# Altium schematic symbol library WE-HCF.SchLib: 54 symbols
Pins are listed as number, name and electrical type; pins without a type are passive.

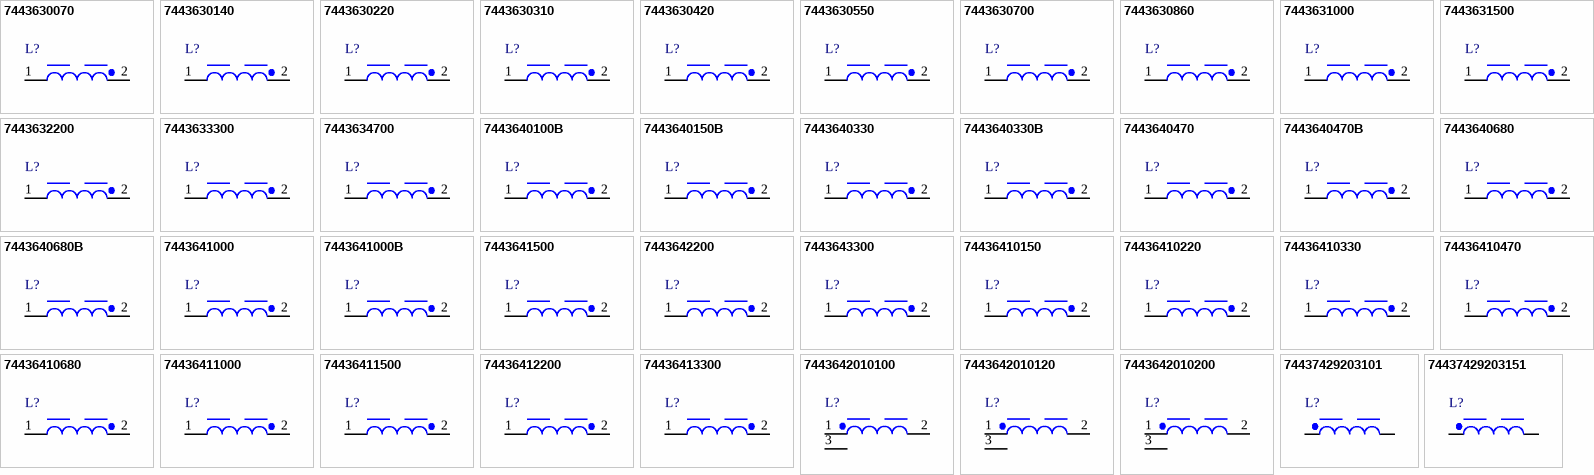
[diagram p0: symbols 7443630070 to 74437429203151]

## 7443630070
designator L?, comment 0.7uH  (value not drawn)
WE-HCF SMT High Current Inductor, SMT, size 2013, 0.7uH, 54.7A, 0.91mohm; Manufacturer Part Number: 7443630070; Manufacturer: Wurth Elektronik; Case/Size Code: 2013; Saturation Current @ 10%: 63A; Saturation Current @ 30%: 75A; Self Resonant Frequency: 65MHz; Wire Type: Flat; Category: Power Inductors; Match Code: WE-HCF; ComponentLink1Description: Website Link; ComponentLink1URL: https://www.we-online.com; ComponentLink2Description: Datasheet Link; ComponentLink2URL: https://www.we-online.com/components/products/datasheet/7443630070; Mount: Surface Mount; Operating Temperature Min: -40degC; Operating Temperature Max: 125degC; Packaging: Tray; Length: 21.8mm; Width: 21.5mm; Height: 14.5mm; DC Resistance Max: 0.91mohm; Inductance: 0.7uH; Performance Rated Current: 54.7A
footprint WE-HCF_2013
simulation model 2013_7443630070_0.7u
pins: 1, 2

## 7443630140
designator L?, comment 1.4uH  (value not drawn)
WE-HCF SMT High Current Inductor, SMT, size 2013, 1.4uH, 47.1A, 1.19mohm; Manufacturer Part Number: 7443630140; Manufacturer: Wurth Elektronik; Case/Size Code: 2013; Saturation Current @ 10%: 55A; Saturation Current @ 30%: 60A; Self Resonant Frequency: 52MHz; Wire Type: Flat; Category: Power Inductors; Match Code: WE-HCF; ComponentLink1Description: Website Link; ComponentLink1URL: https://www.we-online.com; ComponentLink2Description: Datasheet Link; ComponentLink2URL: https://www.we-online.com/components/products/datasheet/7443630140; Mount: Surface Mount; Operating Temperature Min: -40degC; Operating Temperature Max: 125degC; Packaging: Tray; Length: 21.8mm; Width: 21.5mm; Height: 14.5mm; DC Resistance Max: 1.19mohm; Inductance: 1.4uH; Performance Rated Current: 47.1A
footprint WE-HCF_2013
simulation model 2013_7443630140_1.4u
pins: 1, 2

## 7443630220
designator L?, comment 2.2uH  (value not drawn)
WE-HCF SMT High Current Inductor, SMT, size 2013, 2.2uH, 39.5A, 1.65mohm; Manufacturer Part Number: 7443630220; Manufacturer: Wurth Elektronik; Case/Size Code: 2013; Saturation Current @ 10%: 47A; Saturation Current @ 30%: 52A; Self Resonant Frequency: 32MHz; Wire Type: Flat; Category: Power Inductors; Match Code: WE-HCF; ComponentLink1Description: Website Link; ComponentLink1URL: https://www.we-online.com; ComponentLink2Description: Datasheet Link; ComponentLink2URL: https://www.we-online.com/components/products/datasheet/7443630220; Mount: Surface Mount; Operating Temperature Min: -40degC; Operating Temperature Max: 125degC; Packaging: Tray; Length: 21.8mm; Width: 21.5mm; Height: 14.5mm; DC Resistance Max: 1.65mohm; Inductance: 2.2uH; Performance Rated Current: 39.5A
footprint WE-HCF_2013
simulation model 2013_7443630220_2.2u
pins: 1, 2

## 7443630310
designator L?, comment 3.1uH  (value not drawn)
WE-HCF SMT High Current Inductor, SMT, size 2013, 3.1uH, 33.15A, 2.3mohm; Manufacturer Part Number: 7443630310; Manufacturer: Wurth Elektronik; Case/Size Code: 2013; Saturation Current @ 10%: 41A; Saturation Current @ 30%: 45A; Self Resonant Frequency: 29MHz; Wire Type: Flat; Category: Power Inductors; Match Code: WE-HCF; ComponentLink1Description: Website Link; ComponentLink1URL: https://www.we-online.com; ComponentLink2Description: Datasheet Link; ComponentLink2URL: https://www.we-online.com/components/products/datasheet/7443630310; Mount: Surface Mount; Operating Temperature Min: -40degC; Operating Temperature Max: 125degC; Packaging: Tray; Length: 21.8mm; Width: 21.5mm; Height: 14.5mm; DC Resistance Max: 2.3mohm; Inductance: 3.1uH; Performance Rated Current: 33.15A
footprint WE-HCF_2013
simulation model 2013_7443630310_3.1u
pins: 1, 2

## 7443630420
designator L?, comment 4.2uH  (value not drawn)
WE-HCF SMT High Current Inductor, SMT, size 2013, 4.2uH, 27A, 3.34mohm; Manufacturer Part Number: 7443630420; Manufacturer: Wurth Elektronik; Case/Size Code: 2013; Saturation Current @ 10%: 34A; Saturation Current @ 30%: 38A; Self Resonant Frequency: 24MHz; Wire Type: Flat; Category: Power Inductors; Match Code: WE-HCF; ComponentLink1Description: Website Link; ComponentLink1URL: https://www.we-online.com; ComponentLink2Description: Datasheet Link; ComponentLink2URL: https://www.we-online.com/components/products/datasheet/7443630420; Mount: Surface Mount; Operating Temperature Min: -40degC; Operating Temperature Max: 125degC; Packaging: Tray; Length: 21.8mm; Width: 21.5mm; Height: 14.5mm; DC Resistance Max: 3.34mohm; Inductance: 4.2uH; Performance Rated Current: 27A
footprint WE-HCF_2013
simulation model 2013_7443630420_4.2u
pins: 1, 2

## 7443630550
designator L?, comment 5.5uH  (value not drawn)
WE-HCF SMT High Current Inductor, SMT, size 2013, 5.5uH, 23.35A, 4.4mohm; Manufacturer Part Number: 7443630550; Manufacturer: Wurth Elektronik; Case/Size Code: 2013; Saturation Current @ 10%: 30A; Saturation Current @ 30%: 33A; Self Resonant Frequency: 21MHz; Wire Type: Flat; Category: Power Inductors; Match Code: WE-HCF; ComponentLink1Description: Website Link; ComponentLink1URL: https://www.we-online.com; ComponentLink2Description: Datasheet Link; ComponentLink2URL: https://www.we-online.com/components/products/datasheet/7443630550; Mount: Surface Mount; Operating Temperature Min: -40degC; Operating Temperature Max: 125degC; Packaging: Tray; Length: 21.8mm; Width: 21.5mm; Height: 14.5mm; DC Resistance Max: 4.4mohm; Inductance: 5.5uH; Performance Rated Current: 23.35A
footprint WE-HCF_2013
simulation model 2013_7443630550_5.5u
pins: 1, 2

## 7443630700
designator L?, comment 7uH  (value not drawn)
WE-HCF SMT High Current Inductor, SMT, size 2013, 7uH, 19.5A, 6.17mohm; Manufacturer Part Number: 7443630700; Manufacturer: Wurth Elektronik; Case/Size Code: 2013; Saturation Current @ 10%: 27A; Saturation Current @ 30%: 30A; Self Resonant Frequency: 18MHz; Wire Type: Flat; Category: Power Inductors; Match Code: WE-HCF; ComponentLink1Description: Website Link; ComponentLink1URL: https://www.we-online.com; ComponentLink2Description: Datasheet Link; ComponentLink2URL: https://www.we-online.com/components/products/datasheet/7443630700; Mount: Surface Mount; Operating Temperature Min: -40degC; Operating Temperature Max: 125degC; Packaging: Tray; Length: 21.8mm; Width: 21.5mm; Height: 14.5mm; DC Resistance Max: 6.17mohm; Inductance: 7uH; Performance Rated Current: 19.5A
footprint WE-HCF_2013
simulation model 2013_7443630700_7u
pins: 1, 2

## 7443630860
designator L?, comment 8.6uH  (value not drawn)
WE-HCF SMT High Current Inductor, SMT, size 2013, 8.6uH, 17.1A, 7.91mohm; Manufacturer Part Number: 7443630860; Manufacturer: Wurth Elektronik; Case/Size Code: 2013; Saturation Current @ 10%: 23.5A; Saturation Current @ 30%: 25A; Self Resonant Frequency: 14MHz; Wire Type: Flat; Category: Power Inductors; Match Code: WE-HCF; ComponentLink1Description: Website Link; ComponentLink1URL: https://www.we-online.com; ComponentLink2Description: Datasheet Link; ComponentLink2URL: https://www.we-online.com/components/products/datasheet/7443630860; Mount: Surface Mount; Operating Temperature Min: -40degC; Operating Temperature Max: 125degC; Packaging: Tray; Length: 21.8mm; Width: 21.5mm; Height: 14.5mm; DC Resistance Max: 7.91mohm; Inductance: 8.6uH; Performance Rated Current: 17.1A
footprint WE-HCF_2013
simulation model 2013_7443630860_8.6u
pins: 1, 2

## 7443631000
designator L?, comment 10uH  (value not drawn)
WE-HCF SMT High Current Inductor, SMT, size 2013, 10uH, 16.15A, 8.76mohm; Manufacturer Part Number: 7443631000; Manufacturer: Wurth Elektronik; Case/Size Code: 2013; Saturation Current @ 10%: 22A; Saturation Current @ 30%: 23A; Self Resonant Frequency: 13MHz; Wire Type: Flat; Category: Power Inductors; Match Code: WE-HCF; ComponentLink1Description: Website Link; ComponentLink1URL: https://www.we-online.com; ComponentLink2Description: Datasheet Link; ComponentLink2URL: https://www.we-online.com/components/products/datasheet/7443631000; Mount: Surface Mount; Operating Temperature Min: -40degC; Operating Temperature Max: 125degC; Packaging: Tray; Length: 21.8mm; Width: 21.5mm; Height: 14.5mm; DC Resistance Max: 8.76mohm; Inductance: 10uH; Performance Rated Current: 16.15A
footprint WE-HCF_2013
simulation model 2013_7443631000_10u
pins: 1, 2

## 7443631500
designator L?, comment 15uH  (value not drawn)
WE-HCF SMT High Current Inductor, SMT, size 2013, 15uH, 15.4A, 9.57mohm; Manufacturer Part Number: 7443631500; Manufacturer: Wurth Elektronik; Case/Size Code: 2013; Saturation Current @ 10%: 19A; Saturation Current @ 30%: 21A; Self Resonant Frequency: 12.8MHz; Wire Type: Flat; Category: Power Inductors; Match Code: WE-HCF; ComponentLink1Description: Website Link; ComponentLink1URL: https://www.we-online.com; ComponentLink2Description: Datasheet Link; ComponentLink2URL: https://www.we-online.com/components/products/datasheet/7443631500; Mount: Surface Mount; Operating Temperature Min: -40degC; Operating Temperature Max: 125degC; Packaging: Tray; Length: 21.8mm; Width: 21.5mm; Height: 14.5mm; DC Resistance Max: 9.57mohm; Inductance: 15uH; Performance Rated Current: 15.4A
footprint WE-HCF_2013
simulation model 2013_7443631500_15u
pins: 1, 2

## 7443632200
designator L?, comment 22uH  (value not drawn)
WE-HCF SMT High Current Inductor, SMT, size 2013, 22uH, 13.8A, 11.72mohm; Manufacturer Part Number: 7443632200; Manufacturer: Wurth Elektronik; Case/Size Code: 2013; Saturation Current @ 10%: 13A; Saturation Current @ 30%: 15A; Self Resonant Frequency: 12.5MHz; Wire Type: Flat; Category: Power Inductors; Match Code: WE-HCF; ComponentLink1Description: Website Link; ComponentLink1URL: https://www.we-online.com; ComponentLink2Description: Datasheet Link; ComponentLink2URL: https://www.we-online.com/components/products/datasheet/7443632200; Mount: Surface Mount; Operating Temperature Min: -40degC; Operating Temperature Max: 125degC; Packaging: Tray; Length: 21.8mm; Width: 21.5mm; Height: 14.5mm; DC Resistance Max: 11.72mohm; Inductance: 22uH; Performance Rated Current: 13.8A
footprint WE-HCF_2013
simulation model 2013_7443632200_22u
pins: 1, 2

## 7443633300
designator L?, comment 33uH  (value not drawn)
WE-HCF SMT High Current Inductor, SMT, size 2013, 33uH, 13.3A, 12.54mohm; Manufacturer Part Number: 7443633300; Manufacturer: Wurth Elektronik; Case/Size Code: 2013; Saturation Current @ 10%: 9.5A; Saturation Current @ 30%: 11A; Self Resonant Frequency: 12MHz; Wire Type: Flat; Category: Power Inductors; Match Code: WE-HCF; ComponentLink1Description: Website Link; ComponentLink1URL: https://www.we-online.com; ComponentLink2Description: Datasheet Link; ComponentLink2URL: https://www.we-online.com/components/products/datasheet/7443633300; Mount: Surface Mount; Operating Temperature Min: -40degC; Operating Temperature Max: 125degC; Packaging: Tray; Length: 21.8mm; Width: 21.5mm; Height: 14.5mm; DC Resistance Max: 12.54mohm; Inductance: 33uH; Performance Rated Current: 13.3A
footprint WE-HCF_2013
simulation model 2013_7443633300_33u
pins: 1, 2

## 7443634700
designator L?, comment 47uH  (value not drawn)
WE-HCF SMT High Current Inductor, SMT, size 2013, 47uH, 12.8A, 13.42mohm; Manufacturer Part Number: 7443634700; Manufacturer: Wurth Elektronik; Case/Size Code: 2013; Saturation Current @ 10%: 7.5A; Saturation Current @ 30%: 8.5A; Self Resonant Frequency: 10MHz; Wire Type: Flat; Category: Power Inductors; Match Code: WE-HCF; ComponentLink1Description: Website Link; ComponentLink1URL: https://www.we-online.com; ComponentLink2Description: Datasheet Link; ComponentLink2URL: https://www.we-online.com/components/products/datasheet/7443634700; Mount: Surface Mount; Operating Temperature Min: -40degC; Operating Temperature Max: 125degC; Packaging: Tray; Length: 21.8mm; Width: 21.5mm; Height: 14.5mm; DC Resistance Max: 13.42mohm; Inductance: 47uH; Performance Rated Current: 12.8A
footprint WE-HCF_2013
simulation model 2013_7443634700_47u
pins: 1, 2

## 7443640100B
designator L?, comment 1uH  (value not drawn)
WE-HCF SMT High Current Inductor, SMT, size 2818, 1uH, 86.2A, 0.48mohm; Manufacturer Part Number: 7443640100B; Manufacturer: Wurth Elektronik; Case/Size Code: 2818; Saturation Current @ 10%: 122A; Saturation Current @ 30%: 125A; Self Resonant Frequency: 53.6MHz; Wire Type: Flat; Category: Power Inductors; Match Code: WE-HCF; ComponentLink1Description: Website Link; ComponentLink1URL: https://www.we-online.com; ComponentLink2Description: Datasheet Link; ComponentLink2URL: https://www.we-online.com/components/products/datasheet/7443640100B; Mount: Surface Mount; Operating Temperature Min: -40degC; Operating Temperature Max: 125degC; Packaging: Tray; Length: 28mm; Width: 27mm; Height: 18.5mm; DC Resistance Max: 0.48mohm; Inductance: 1uH; Performance Rated Current: 86.2A
footprint WE-HCF_2818
simulation model 2818B_7443640100B_1u
pins: 1, 2

## 7443640150B
designator L?, comment 1.5uH  (value not drawn)
WE-HCF SMT High Current Inductor, SMT, size 2818, 1.5uH, 86.2A, 0.48mohm; Manufacturer Part Number: 7443640150B; Manufacturer: Wurth Elektronik; Case/Size Code: 2818; Saturation Current @ 10%: 85A; Saturation Current @ 30%: 91.8A; Self Resonant Frequency: 37.6MHz; Wire Type: Flat; Category: Power Inductors; Match Code: WE-HCF; ComponentLink1Description: Website Link; ComponentLink1URL: https://www.we-online.com; ComponentLink2Description: Datasheet Link; ComponentLink2URL: https://www.we-online.com/components/products/datasheet/7443640150B; Mount: Surface Mount; Operating Temperature Min: -40degC; Operating Temperature Max: 125degC; Packaging: Tray; Length: 28mm; Width: 27mm; Height: 18.5mm; DC Resistance Max: 0.48mohm; Inductance: 1.5uH; Performance Rated Current: 86.2A
footprint WE-HCF_2818
simulation model 2818B_7443640150B_1.5u
pins: 1, 2

## 7443640330
designator L?, comment 3.3uH  (value not drawn)
WE-HCF SMT High Current Inductor, SMT, size 2818, 3.3uH, 34.95A, 2.64mohm; Manufacturer Part Number: 7443640330; Manufacturer: Wurth Elektronik; Case/Size Code: 2818; Saturation Current @ 10%: 89.8A; Saturation Current @ 30%: 100A; Self Resonant Frequency: 25MHz; Wire Type: Flat; Category: Power Inductors; Match Code: WE-HCF; ComponentLink1Description: Website Link; ComponentLink1URL: https://www.we-online.com; ComponentLink2Description: Datasheet Link; ComponentLink2URL: https://www.we-online.com/components/products/datasheet/7443640330; Mount: Surface Mount; Operating Temperature Min: -40degC; Operating Temperature Max: 125degC; Packaging: Tray; Length: 28mm; Width: 27mm; Height: 18.5mm; DC Resistance Max: 2.64mohm; Inductance: 3.3uH; Performance Rated Current: 34.95A
footprint WE-HCF_2818
simulation model 2818_7443640330_3.3u
pins: 1, 2

## 7443640330B
designator L?, comment 3.3uH  (value not drawn)
WE-HCF SMT High Current Inductor, SMT, size 2818, 3.3uH, 59.2A, 0.97mohm; Manufacturer Part Number: 7443640330B; Manufacturer: Wurth Elektronik; Case/Size Code: 2818; Saturation Current @ 10%: 61.35A; Saturation Current @ 30%: 70A; Self Resonant Frequency: 28.2MHz; Wire Type: Flat; Category: Power Inductors; Match Code: WE-HCF; ComponentLink1Description: Website Link; ComponentLink1URL: https://www.we-online.com; ComponentLink2Description: Datasheet Link; ComponentLink2URL: https://www.we-online.com/components/products/datasheet/7443640330B; Mount: Surface Mount; Operating Temperature Min: -40degC; Operating Temperature Max: 125degC; Packaging: Tray; Length: 28mm; Width: 27mm; Height: 18.5mm; DC Resistance Max: 0.97mohm; Inductance: 3.3uH; Performance Rated Current: 59.2A
footprint WE-HCF_2818
simulation model 2818B_7443640330B_3.3u
pins: 1, 2

## 7443640470
designator L?, comment 4.7uH  (value not drawn)
WE-HCF SMT High Current Inductor, SMT, size 2818, 4.7uH, 34.95A, 2.64mohm; Manufacturer Part Number: 7443640470; Manufacturer: Wurth Elektronik; Case/Size Code: 2818; Saturation Current @ 10%: 70A; Saturation Current @ 30%: 78A; Self Resonant Frequency: 20MHz; Wire Type: Flat; Category: Power Inductors; Match Code: WE-HCF; ComponentLink1Description: Website Link; ComponentLink1URL: https://www.we-online.com; ComponentLink2Description: Datasheet Link; ComponentLink2URL: https://www.we-online.com/components/products/datasheet/7443640470; Mount: Surface Mount; Operating Temperature Min: -40degC; Operating Temperature Max: 125degC; Packaging: Tray; Length: 28mm; Width: 27mm; Height: 18.5mm; DC Resistance Max: 2.64mohm; Inductance: 4.7uH; Performance Rated Current: 34.95A
footprint WE-HCF_2818
simulation model 2818_7443640470_4.7u
pins: 1, 2

## 7443640470B
designator L?, comment 4.7uH  (value not drawn)
WE-HCF SMT High Current Inductor, SMT, size 2818, 4.7uH, 59.2A, 0.97mohm; Manufacturer Part Number: 7443640470B; Manufacturer: Wurth Elektronik; Case/Size Code: 2818; Saturation Current @ 10%: 43.85A; Saturation Current @ 30%: 49.5A; Self Resonant Frequency: 22.6MHz; Wire Type: Flat; Category: Power Inductors; Match Code: WE-HCF; ComponentLink1Description: Website Link; ComponentLink1URL: https://www.we-online.com; ComponentLink2Description: Datasheet Link; ComponentLink2URL: https://www.we-online.com/components/products/datasheet/7443640470B; Mount: Surface Mount; Operating Temperature Min: -40degC; Operating Temperature Max: 125degC; Packaging: Tray; Length: 28mm; Width: 27mm; Height: 18.5mm; DC Resistance Max: 0.97mohm; Inductance: 4.7uH; Performance Rated Current: 59.2A
footprint WE-HCF_2818
simulation model 2818B_7443640470B_4.7u
pins: 1, 2

## 7443640680
designator L?, comment 6.8uH  (value not drawn)
WE-HCF SMT High Current Inductor, SMT, size 2818, 6.8uH, 34.95A, 2.64mohm; Manufacturer Part Number: 7443640680; Manufacturer: Wurth Elektronik; Case/Size Code: 2818; Saturation Current @ 10%: 49.8A; Saturation Current @ 30%: 55A; Self Resonant Frequency: 17MHz; Wire Type: Flat; Category: Power Inductors; Match Code: WE-HCF; ComponentLink1Description: Website Link; ComponentLink1URL: https://www.we-online.com; ComponentLink2Description: Datasheet Link; ComponentLink2URL: https://www.we-online.com/components/products/datasheet/7443640680; Mount: Surface Mount; Operating Temperature Min: -40degC; Operating Temperature Max: 125degC; Packaging: Tray; Length: 28mm; Width: 27mm; Height: 18.5mm; DC Resistance Max: 2.64mohm; Inductance: 6.8uH; Performance Rated Current: 34.95A
footprint WE-HCF_2818
simulation model 2818_7443640680_6.8u
pins: 1, 2

## 7443640680B
designator L?, comment 6.8uH  (value not drawn)
WE-HCF SMT High Current Inductor, SMT, size 2818, 6.8uH, 59.2A, 0.97mohm; Manufacturer Part Number: 7443640680B; Manufacturer: Wurth Elektronik; Case/Size Code: 2818; Saturation Current @ 10%: 31.9A; Saturation Current @ 30%: 36.3A; Self Resonant Frequency: 18.8MHz; Wire Type: Flat; Category: Power Inductors; Match Code: WE-HCF; ComponentLink1Description: Website Link; ComponentLink1URL: https://www.we-online.com; ComponentLink2Description: Datasheet Link; ComponentLink2URL: https://www.we-online.com/components/products/datasheet/7443640680B; Mount: Surface Mount; Operating Temperature Min: -40degC; Operating Temperature Max: 125degC; Packaging: Tray; Length: 28mm; Width: 27mm; Height: 18.5mm; DC Resistance Max: 0.97mohm; Inductance: 6.8uH; Performance Rated Current: 59.2A
footprint WE-HCF_2818
simulation model 2818B_7443640680B_6.8u
pins: 1, 2

## 7443641000
designator L?, comment 10uH  (value not drawn)
WE-HCF SMT High Current Inductor, SMT, size 2818, 10uH, 34.95A, 2.64mohm; Manufacturer Part Number: 7443641000; Manufacturer: Wurth Elektronik; Case/Size Code: 2818; Saturation Current @ 10%: 32.6A; Saturation Current @ 30%: 37A; Self Resonant Frequency: 13MHz; Wire Type: Flat; Category: Power Inductors; Match Code: WE-HCF; ComponentLink1Description: Website Link; ComponentLink1URL: https://www.we-online.com; ComponentLink2Description: Datasheet Link; ComponentLink2URL: https://www.we-online.com/components/products/datasheet/7443641000; Mount: Surface Mount; Operating Temperature Min: -40degC; Operating Temperature Max: 125degC; Packaging: Tray; Length: 28mm; Width: 27mm; Height: 18.5mm; DC Resistance Max: 2.64mohm; Inductance: 10uH; Performance Rated Current: 34.95A
footprint WE-HCF_2818
simulation model 2818_7443641000_10u
pins: 1, 2

## 7443641000B
designator L?, comment 10uH  (value not drawn)
WE-HCF SMT High Current Inductor, SMT, size 2818, 10uH, 59.2A, 0.97mohm; Manufacturer Part Number: 7443641000B; Manufacturer: Wurth Elektronik; Case/Size Code: 2818; Saturation Current @ 10%: 22.9A; Saturation Current @ 30%: 25.1A; Self Resonant Frequency: 15MHz; Wire Type: Flat; Category: Power Inductors; Match Code: WE-HCF; ComponentLink1Description: Website Link; ComponentLink1URL: https://www.we-online.com; ComponentLink2Description: Datasheet Link; ComponentLink2URL: https://www.we-online.com/components/products/datasheet/7443641000B; Mount: Surface Mount; Operating Temperature Min: -40degC; Operating Temperature Max: 125degC; Packaging: Tray; Length: 28mm; Width: 27mm; Height: 18.5mm; DC Resistance Max: 0.97mohm; Inductance: 10uH; Performance Rated Current: 59.2A
footprint WE-HCF_2818
simulation model 2818B_7443641000B_10u
pins: 1, 2

## 7443641500
designator L?, comment 15uH  (value not drawn)
WE-HCF SMT High Current Inductor, SMT, size 2818, 15uH, 34.95A, 2.64mohm; Manufacturer Part Number: 7443641500; Manufacturer: Wurth Elektronik; Case/Size Code: 2818; Saturation Current @ 10%: 22A; Saturation Current @ 30%: 26A; Self Resonant Frequency: 11MHz; Wire Type: Flat; Category: Power Inductors; Match Code: WE-HCF; ComponentLink1Description: Website Link; ComponentLink1URL: https://www.we-online.com; ComponentLink2Description: Datasheet Link; ComponentLink2URL: https://www.we-online.com/components/products/datasheet/7443641500; Mount: Surface Mount; Operating Temperature Min: -40degC; Operating Temperature Max: 125degC; Packaging: Tray; Length: 28mm; Width: 27mm; Height: 18.5mm; DC Resistance Max: 2.64mohm; Inductance: 15uH; Performance Rated Current: 34.95A
footprint WE-HCF_2818
simulation model 2818_7443641500_15u
pins: 1, 2

## 7443642200
designator L?, comment 22uH  (value not drawn)
WE-HCF SMT High Current Inductor, SMT, size 2818, 22uH, 34.95A, 2.64mohm; Manufacturer Part Number: 7443642200; Manufacturer: Wurth Elektronik; Case/Size Code: 2818; Saturation Current @ 10%: 15.5A; Saturation Current @ 30%: 18A; Self Resonant Frequency: 9MHz; Wire Type: Flat; Category: Power Inductors; Match Code: WE-HCF; ComponentLink1Description: Website Link; ComponentLink1URL: https://www.we-online.com; ComponentLink2Description: Datasheet Link; ComponentLink2URL: https://www.we-online.com/components/products/datasheet/7443642200; Mount: Surface Mount; Operating Temperature Min: -40degC; Operating Temperature Max: 125degC; Packaging: Tray; Length: 28mm; Width: 27mm; Height: 18.5mm; DC Resistance Max: 2.64mohm; Inductance: 22uH; Performance Rated Current: 34.95A
footprint WE-HCF_2818
simulation model 2818_7443642200_22u
pins: 1, 2

## 7443643300
designator L?, comment 33uH  (value not drawn)
WE-HCF SMT High Current Inductor, SMT, size 2818, 33uH, 34.95A, 2.64mohm; Manufacturer Part Number: 7443643300; Manufacturer: Wurth Elektronik; Case/Size Code: 2818; Saturation Current @ 10%: 10.5A; Saturation Current @ 30%: 11.5A; Self Resonant Frequency: 7MHz; Wire Type: Flat; Category: Power Inductors; Match Code: WE-HCF; ComponentLink1Description: Website Link; ComponentLink1URL: https://www.we-online.com; ComponentLink2Description: Datasheet Link; ComponentLink2URL: https://www.we-online.com/components/products/datasheet/7443643300; Mount: Surface Mount; Operating Temperature Min: -40degC; Operating Temperature Max: 125degC; Packaging: Tray; Length: 28mm; Width: 27mm; Height: 18.5mm; DC Resistance Max: 2.64mohm; Inductance: 33uH; Performance Rated Current: 34.95A
footprint WE-HCF_2818
simulation model 2818_7443643300_33u
pins: 1, 2

## 74436410150
designator L?, comment 1.5uH  (value not drawn)
WE-HCF SMT High Current Inductor, SMT, size 2815, 1.5uH, 44A, 1.44mohm; Manufacturer Part Number: 74436410150; Manufacturer: Wurth Elektronik; Case/Size Code: 2815; Saturation Current @ 10%: 110A; Saturation Current @ 30%: 125A; Self Resonant Frequency: 43.24MHz; Wire Type: Flat; Category: Power Inductors; Match Code: WE-HCF; ComponentLink1Description: Website Link; ComponentLink1URL: https://www.we-online.com; ComponentLink2Description: Datasheet Link; ComponentLink2URL: https://www.we-online.com/components/products/datasheet/74436410150; Mount: Surface Mount; Operating Temperature Min: -40degC; Operating Temperature Max: 125degC; Packaging: Tray; Length: 28mm; Width: 27mm; Height: 15.4mm; DC Resistance Max: 1.44mohm; Inductance: 1.5uH; Performance Rated Current: 44A
footprint WE-HCF_2815
simulation model 2815_74436410150_1.5u
pins: 1, 2

## 74436410220
designator L?, comment 2.2uH  (value not drawn)
WE-HCF SMT High Current Inductor, SMT, size 2815, 2.2uH, 44A, 1.44mohm; Manufacturer Part Number: 74436410220; Manufacturer: Wurth Elektronik; Case/Size Code: 2815; Saturation Current @ 10%: 85A; Saturation Current @ 30%: 88.5A; Self Resonant Frequency: 32.8MHz; Wire Type: Flat; Category: Power Inductors; Match Code: WE-HCF; ComponentLink1Description: Website Link; ComponentLink1URL: https://www.we-online.com; ComponentLink2Description: Datasheet Link; ComponentLink2URL: https://www.we-online.com/components/products/datasheet/74436410220; Mount: Surface Mount; Operating Temperature Min: -40degC; Operating Temperature Max: 125degC; Packaging: Tray; Length: 28mm; Width: 27mm; Height: 15.4mm; DC Resistance Max: 1.44mohm; Inductance: 2.2uH; Performance Rated Current: 44A
footprint WE-HCF_2815
simulation model 2815_74436410220_2.2u
pins: 1, 2

## 74436410330
designator L?, comment 3.3uH  (value not drawn)
WE-HCF SMT High Current Inductor, SMT, size 2815, 3.3uH, 44A, 1.44mohm; Manufacturer Part Number: 74436410330; Manufacturer: Wurth Elektronik; Case/Size Code: 2815; Saturation Current @ 10%: 57A; Saturation Current @ 30%: 60.5A; Self Resonant Frequency: 26.44MHz; Wire Type: Flat; Category: Power Inductors; Match Code: WE-HCF; ComponentLink1Description: Website Link; ComponentLink1URL: https://www.we-online.com; ComponentLink2Description: Datasheet Link; ComponentLink2URL: https://www.we-online.com/components/products/datasheet/74436410330; Mount: Surface Mount; Operating Temperature Min: -40degC; Operating Temperature Max: 125degC; Packaging: Tray; Length: 28mm; Width: 27mm; Height: 15.4mm; DC Resistance Max: 1.44mohm; Inductance: 3.3uH; Performance Rated Current: 44A
footprint WE-HCF_2815
simulation model 2815_74436410330_3.3u
pins: 1, 2

## 74436410470
designator L?, comment 4.7uH  (value not drawn)
WE-HCF SMT High Current Inductor, SMT, size 2815, 4.7uH, 44A, 1.44mohm; Manufacturer Part Number: 74436410470; Manufacturer: Wurth Elektronik; Case/Size Code: 2815; Saturation Current @ 30%: 48A; Self Resonant Frequency: 21.56MHz; Wire Type: Flat; Category: Power Inductors; Match Code: WE-HCF; ComponentLink1Description: Website Link; ComponentLink1URL: https://www.we-online.com; ComponentLink2Description: Datasheet Link; ComponentLink2URL: https://www.we-online.com/components/products/datasheet/74436410470; Mount: Surface Mount; Operating Temperature Min: -40degC; Operating Temperature Max: 125degC; Packaging: Tray; Length: 28mm; Width: 27mm; Height: 15.4mm; DC Resistance Max: 1.44mohm; Inductance: 4.7uH; Performance Rated Current: 44A; Saturation Current @ 10%: 44A
footprint WE-HCF_2815
simulation model 2815_74436410470_4.7u
pins: 1, 2

## 74436410680
designator L?, comment 6.8uH  (value not drawn)
WE-HCF SMT High Current Inductor, SMT, size 2815, 6.8uH, 44A, 1.44mohm; Manufacturer Part Number: 74436410680; Manufacturer: Wurth Elektronik; Case/Size Code: 2815; Saturation Current @ 10%: 30A; Saturation Current @ 30%: 33A; Self Resonant Frequency: 17.03MHz; Wire Type: Flat; Category: Power Inductors; Match Code: WE-HCF; ComponentLink1Description: Website Link; ComponentLink1URL: https://www.we-online.com; ComponentLink2Description: Datasheet Link; ComponentLink2URL: https://www.we-online.com/components/products/datasheet/74436410680; Mount: Surface Mount; Operating Temperature Min: -40degC; Operating Temperature Max: 125degC; Packaging: Tray; Length: 28mm; Width: 27mm; Height: 15.4mm; DC Resistance Max: 1.44mohm; Inductance: 6.8uH; Performance Rated Current: 44A
footprint WE-HCF_2815
simulation model 2815_74436410680_6.8u
pins: 1, 2

## 74436411000
designator L?, comment 10uH  (value not drawn)
WE-HCF SMT High Current Inductor, SMT, size 2815, 10uH, 44A, 1.44mohm; Manufacturer Part Number: 74436411000; Manufacturer: Wurth Elektronik; Case/Size Code: 2815; Saturation Current @ 10%: 20A; Saturation Current @ 30%: 21.5A; Self Resonant Frequency: 13.55MHz; Wire Type: Flat; Category: Power Inductors; Match Code: WE-HCF; ComponentLink1Description: Website Link; ComponentLink1URL: https://www.we-online.com; ComponentLink2Description: Datasheet Link; ComponentLink2URL: https://www.we-online.com/components/products/datasheet/74436411000; Mount: Surface Mount; Operating Temperature Min: -40degC; Operating Temperature Max: 125degC; Packaging: Tray; Length: 28mm; Width: 27mm; Height: 15.4mm; DC Resistance Max: 1.44mohm; Inductance: 10uH; Performance Rated Current: 44A
footprint WE-HCF_2815
simulation model 2815_74436411000_10u
pins: 1, 2

## 74436411500
designator L?, comment 15uH  (value not drawn)
WE-HCF SMT High Current Inductor, SMT, size 2815, 15uH, 44A, 1.44mohm; Manufacturer Part Number: 74436411500; Manufacturer: Wurth Elektronik; Case/Size Code: 2815; Saturation Current @ 10%: 13A; Saturation Current @ 30%: 14.3A; Self Resonant Frequency: 10.73MHz; Wire Type: Flat; Category: Power Inductors; Match Code: WE-HCF; ComponentLink1Description: Website Link; ComponentLink1URL: https://www.we-online.com; ComponentLink2Description: Datasheet Link; ComponentLink2URL: https://www.we-online.com/components/products/datasheet/74436411500; Mount: Surface Mount; Operating Temperature Min: -40degC; Operating Temperature Max: 125degC; Packaging: Tray; Length: 28mm; Width: 27mm; Height: 15.4mm; DC Resistance Max: 1.44mohm; Inductance: 15uH; Performance Rated Current: 44A
footprint WE-HCF_2815
simulation model 2815_74436411500_15u
pins: 1, 2

## 74436412200
designator L?, comment 22uH  (value not drawn)
WE-HCF SMT High Current Inductor, SMT, size 2815, 22uH, 44A, 1.44mohm; Manufacturer Part Number: 74436412200; Manufacturer: Wurth Elektronik; Case/Size Code: 2815; Saturation Current @ 10%: 7.5A; Saturation Current @ 30%: 9.5A; Self Resonant Frequency: 8.06MHz; Wire Type: Flat; Category: Power Inductors; Match Code: WE-HCF; ComponentLink1Description: Website Link; ComponentLink1URL: https://www.we-online.com; ComponentLink2Description: Datasheet Link; ComponentLink2URL: https://www.we-online.com/components/products/datasheet/74436412200; Mount: Surface Mount; Operating Temperature Min: -40degC; Operating Temperature Max: 125degC; Packaging: Tray; Length: 28mm; Width: 27mm; Height: 15.4mm; DC Resistance Max: 1.44mohm; Inductance: 22uH; Performance Rated Current: 44A
footprint WE-HCF_2815
simulation model 2815_74436412200_22u
pins: 1, 2

## 74436413300
designator L?, comment 33uH  (value not drawn)
WE-HCF SMT High Current Inductor, SMT, size 2815, 33uH, 44A, 1.44mohm; Manufacturer Part Number: 74436413300; Manufacturer: Wurth Elektronik; Case/Size Code: 2815; Saturation Current @ 10%: 4.5A; Saturation Current @ 30%: 6A; Self Resonant Frequency: 6.29MHz; Wire Type: Flat; Category: Power Inductors; Match Code: WE-HCF; ComponentLink1Description: Website Link; ComponentLink1URL: https://www.we-online.com; ComponentLink2Description: Datasheet Link; ComponentLink2URL: https://www.we-online.com/components/products/datasheet/74436413300; Mount: Surface Mount; Operating Temperature Min: -40degC; Operating Temperature Max: 125degC; Packaging: Tray; Length: 28mm; Width: 27mm; Height: 15.4mm; DC Resistance Max: 1.44mohm; Inductance: 33uH; Performance Rated Current: 44A
footprint WE-HCF_2815
simulation model 2815_74436413300_33u
pins: 1, 2

## 7443642010100
designator L?, comment 1uH  (value not drawn)
WE-HCF SMT High Current Inductor, SMT, size 2010, 1uH, 50.3A, 0.92mohm; Manufacturer Part Number: 7443642010100; Manufacturer: Wurth Elektronik; Case/Size Code: 2010; Saturation Current @ 10%: 49A; Saturation Current @ 30%: 56A; Self Resonant Frequency: 44MHz; Wire Type: Flat; Category: Power Inductors; Match Code: WE-HCF; ComponentLink1Description: Website Link; ComponentLink1URL: https://www.we-online.com; ComponentLink2Description: Datasheet Link; ComponentLink2URL: https://www.we-online.com/components/products/datasheet/7443642010100; Mount: Surface Mount; Operating Temperature Min: -40degC; Operating Temperature Max: 125degC; Packaging: Tray; Length: 19.8mm; Width: 19.1mm; Height: 10mm; DC Resistance Max: 0.92mohm; Inductance: 1uH; Performance Rated Current: 50.3A
footprint WE-HCF_2010
simulation model 2010_7443642010100_1u
pins: 1, 2, 3

## 7443642010120
designator L?, comment 1.2uH  (value not drawn)
WE-HCF SMT High Current Inductor, SMT, size 2010, 1.2uH, 50.3A, 0.92mohm; Manufacturer Part Number: 7443642010120; Manufacturer: Wurth Elektronik; Case/Size Code: 2010; Saturation Current @ 10%: 42.5A; Saturation Current @ 30%: 47A; Self Resonant Frequency: 42MHz; Wire Type: Flat; Category: Power Inductors; Match Code: WE-HCF; ComponentLink1Description: Website Link; ComponentLink1URL: https://www.we-online.com; ComponentLink2Description: Datasheet Link; ComponentLink2URL: https://www.we-online.com/components/products/datasheet/7443642010120; Mount: Surface Mount; Operating Temperature Min: -40degC; Operating Temperature Max: 125degC; Packaging: Tray; Length: 19.8mm; Width: 19.1mm; Height: 10mm; DC Resistance Max: 0.92mohm; Inductance: 1.2uH; Performance Rated Current: 50.3A
footprint WE-HCF_2010
simulation model 2010_7443642010120_1.2u
pins: 1, 2, 3

## 7443642010200
designator L?, comment 2uH  (value not drawn)
WE-HCF SMT High Current Inductor, SMT, size 2010, 2uH, 50.3A, 0.92mohm; Manufacturer Part Number: 7443642010200; Manufacturer: Wurth Elektronik; Case/Size Code: 2010; Saturation Current @ 10%: 25.5A; Saturation Current @ 30%: 30A; Self Resonant Frequency: 30MHz; Wire Type: Flat; Category: Power Inductors; Match Code: WE-HCF; ComponentLink1Description: Website Link; ComponentLink1URL: https://www.we-online.com; ComponentLink2Description: Datasheet Link; ComponentLink2URL: https://www.we-online.com/components/products/datasheet/7443642010200; Mount: Surface Mount; Operating Temperature Min: -40degC; Operating Temperature Max: 125degC; Packaging: Tray; Length: 19.8mm; Width: 19.1mm; Height: 10mm; DC Resistance Max: 0.92mohm; Inductance: 2uH; Performance Rated Current: 50.3A
footprint WE-HCF_2010
simulation model 2010_7443642010200_2u
pins: 1, 2, 3

## 74437429203101
designator L?, comment 100uH  (value not drawn)
WE-HCF SMT High Current Inductor, SMT, size 2920, 100uH, 8.2A, 39.49mohm; Manufacturer Part Number: 74437429203101; Manufacturer: Wurth Elektronik; Case/Size Code: 2920; Saturation Current @ 10%: 7.5A; Saturation Current @ 30%: 9.7A; Self Resonant Frequency: 4.3MHz; Wire Type: Litz; Category: Power Inductors; Match Code: WE-HCF; ComponentLink1Description: Website Link; ComponentLink1URL: https://www.we-online.com; ComponentLink2Description: Datasheet Link; ComponentLink2URL: https://www.we-online.com/components/products/datasheet/74437429203101; Mount: Surface Mount; Operating Temperature Min: -40degC; Operating Temperature Max: 125degC; Packaging: Tray; Length: 28mm; Width: 25mm; Height: 20.5mm; DC Resistance Max: 39.49mohm; Inductance: 100uH; Performance Rated Current: 8.2A
footprint WE-HCF_2920
simulation model 2920_74437429203101_100u
pins: 1, 2

## 74437429203151
designator L?, comment 150uH  (value not drawn)
WE-HCF SMT High Current Inductor, SMT, size 2920, 150uH, 7.9A, 42.74mohm; Manufacturer Part Number: 74437429203151; Manufacturer: Wurth Elektronik; Case/Size Code: 2920; Saturation Current @ 10%: 6A; Saturation Current @ 30%: 7.8A; Self Resonant Frequency: 3.8MHz; Wire Type: Litz; Category: Power Inductors; Match Code: WE-HCF; ComponentLink1Description: Website Link; ComponentLink1URL: https://www.we-online.com; ComponentLink2Description: Datasheet Link; ComponentLink2URL: https://www.we-online.com/components/products/datasheet/74437429203151; Mount: Surface Mount; Operating Temperature Min: -40degC; Operating Temperature Max: 125degC; Packaging: Tray; Length: 28mm; Width: 25mm; Height: 20.5mm; DC Resistance Max: 42.74mohm; Inductance: 150uH; Performance Rated Current: 7.9A
footprint WE-HCF_2920
simulation model 2920_74437429203151_150u
pins: 1, 2

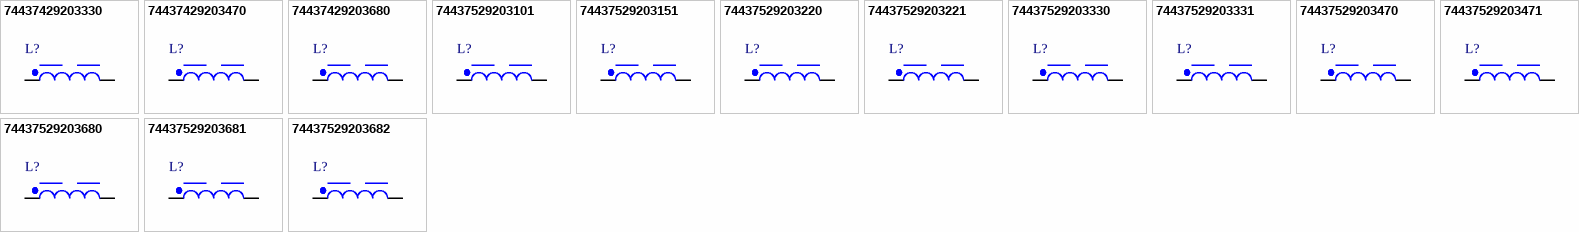
[diagram p1: symbols 74437429203330 to 74437529203682]

## 74437429203330
designator L?, comment 33uH  (value not drawn)
WE-HCF SMT High Current Inductor, SMT, size 2920, 33uH, 13.25A, 16.83mohm; Manufacturer Part Number: 74437429203330; Manufacturer: Wurth Elektronik; Case/Size Code: 2920; Saturation Current @ 10%: 7A; Saturation Current @ 30%: 16.3A; Self Resonant Frequency: 8MHz; Wire Type: Litz; Category: Power Inductors; Match Code: WE-HCF; ComponentLink1Description: Website Link; ComponentLink1URL: https://www.we-online.com; ComponentLink2Description: Datasheet Link; ComponentLink2URL: https://www.we-online.com/components/products/datasheet/74437429203330; Mount: Surface Mount; Operating Temperature Min: -40degC; Operating Temperature Max: 125degC; Packaging: Tray; Length: 28mm; Width: 25mm; Height: 20.5mm; DC Resistance Max: 16.83mohm; Inductance: 33uH; Performance Rated Current: 13.25A
footprint WE-HCF_2920
simulation model 2920_74437429203330_33u
pins: 1, 2

## 74437429203470
designator L?, comment 47uH  (value not drawn)
WE-HCF SMT High Current Inductor, SMT, size 2920, 47uH, 11.65A, 21.23mohm; Manufacturer Part Number: 74437429203470; Manufacturer: Wurth Elektronik; Case/Size Code: 2920; Saturation Current @ 10%: 7.6A; Saturation Current @ 30%: 13.5A; Self Resonant Frequency: 7.5MHz; Wire Type: Litz; Category: Power Inductors; Match Code: WE-HCF; ComponentLink1Description: Website Link; ComponentLink1URL: https://www.we-online.com; ComponentLink2Description: Datasheet Link; ComponentLink2URL: https://www.we-online.com/components/products/datasheet/74437429203470; Mount: Surface Mount; Operating Temperature Min: -40degC; Operating Temperature Max: 125degC; Packaging: Tray; Length: 28mm; Width: 25mm; Height: 20.5mm; DC Resistance Max: 21.23mohm; Inductance: 47uH; Performance Rated Current: 11.65A
footprint WE-HCF_2920
simulation model 2920_74437429203470_47u
pins: 1, 2

## 74437429203680
designator L?, comment 68uH  (value not drawn)
WE-HCF SMT High Current Inductor, SMT, size 2920, 68uH, 10.8A, 24.42mohm; Manufacturer Part Number: 74437429203680; Manufacturer: Wurth Elektronik; Case/Size Code: 2920; Saturation Current @ 10%: 6.4A; Saturation Current @ 30%: 10.7A; Self Resonant Frequency: 5.3MHz; Wire Type: Litz; Category: Power Inductors; Match Code: WE-HCF; ComponentLink1Description: Website Link; ComponentLink1URL: https://www.we-online.com; ComponentLink2Description: Datasheet Link; ComponentLink2URL: https://www.we-online.com/components/products/datasheet/74437429203680; Mount: Surface Mount; Operating Temperature Min: -40degC; Operating Temperature Max: 125degC; Packaging: Tray; Length: 28mm; Width: 25mm; Height: 20.5mm; DC Resistance Max: 24.42mohm; Inductance: 68uH; Performance Rated Current: 10.8A
footprint WE-HCF_2920
simulation model 2920_74437429203680_68u
pins: 1, 2

## 74437529203101
designator L?, comment 100uH  (value not drawn)
WE-HCF SMT High Current Inductor, SMT, size 2920, 100uH, 10.5A, 25.19mohm; Manufacturer Part Number: 74437529203101; Manufacturer: Wurth Elektronik; Case/Size Code: 2920; Saturation Current @ 10%: 7A; Saturation Current @ 30%: 9.4A; Self Resonant Frequency: 4.3MHz; Wire Type: Round; Category: Power Inductors; Match Code: WE-HCF; ComponentLink1Description: Website Link; ComponentLink1URL: https://www.we-online.com; ComponentLink2Description: Datasheet Link; ComponentLink2URL: https://www.we-online.com/components/products/datasheet/74437529203101; Mount: Surface Mount; Operating Temperature Min: -40degC; Operating Temperature Max: 125degC; Packaging: Tray; Length: 28mm; Width: 25mm; Height: 20.5mm; DC Resistance Max: 25.19mohm; Inductance: 100uH; Performance Rated Current: 10.5A
footprint WE-HCF_2920
simulation model 2920_74437529203101_100u
pins: 1, 2

## 74437529203151
designator L?, comment 150uH  (value not drawn)
WE-HCF SMT High Current Inductor, SMT, size 2920, 150uH, 9A, 33.66mohm; Manufacturer Part Number: 74437529203151; Manufacturer: Wurth Elektronik; Case/Size Code: 2920; Saturation Current @ 10%: 5.8A; Saturation Current @ 30%: 7.2A; Self Resonant Frequency: 3.2MHz; Wire Type: Round; Category: Power Inductors; Match Code: WE-HCF; ComponentLink1Description: Website Link; ComponentLink1URL: https://www.we-online.com; ComponentLink2Description: Datasheet Link; ComponentLink2URL: https://www.we-online.com/components/products/datasheet/74437529203151; Mount: Surface Mount; Operating Temperature Min: -40degC; Operating Temperature Max: 125degC; Packaging: Tray; Length: 28mm; Width: 25mm; Height: 20.5mm; DC Resistance Max: 33.66mohm; Inductance: 150uH; Performance Rated Current: 9A
footprint WE-HCF_2920
simulation model 2920_74437529203151_150u
pins: 1, 2

## 74437529203220
designator L?, comment 22uH  (value not drawn)
WE-HCF SMT High Current Inductor, SMT, size 2920, 22uH, 24.05A, 5.39mohm; Manufacturer Part Number: 74437529203220; Manufacturer: Wurth Elektronik; Case/Size Code: 2920; Saturation Current @ 10%: 7.5A; Saturation Current @ 30%: 21.7A; Self Resonant Frequency: 9MHz; Wire Type: Round; Category: Power Inductors; Match Code: WE-HCF; ComponentLink1Description: Website Link; ComponentLink1URL: https://www.we-online.com; ComponentLink2Description: Datasheet Link; ComponentLink2URL: https://www.we-online.com/components/products/datasheet/74437529203220; Mount: Surface Mount; Operating Temperature Min: -40degC; Operating Temperature Max: 125degC; Packaging: Tray; Length: 28mm; Width: 25mm; Height: 20.5mm; DC Resistance Max: 5.39mohm; Inductance: 22uH; Performance Rated Current: 24.05A
footprint WE-HCF_2920
simulation model 2920_74437529203220_22u
pins: 1, 2

## 74437529203221
designator L?, comment 220uH  (value not drawn)
WE-HCF SMT High Current Inductor, SMT, size 2920, 220uH, 8.15A, 40.1mohm; Manufacturer Part Number: 74437529203221; Manufacturer: Wurth Elektronik; Case/Size Code: 2920; Saturation Current @ 10%: 4.1A; Saturation Current @ 30%: 5.3A; Self Resonant Frequency: 2.8MHz; Wire Type: Round; Category: Power Inductors; Match Code: WE-HCF; ComponentLink1Description: Website Link; ComponentLink1URL: https://www.we-online.com; ComponentLink2Description: Datasheet Link; ComponentLink2URL: https://www.we-online.com/components/products/datasheet/74437529203221; Mount: Surface Mount; Operating Temperature Min: -40degC; Operating Temperature Max: 125degC; Packaging: Tray; Length: 28mm; Width: 25mm; Height: 20.5mm; DC Resistance Max: 40.1mohm; Inductance: 220uH; Performance Rated Current: 8.15A
footprint WE-HCF_2920
simulation model 2920_74437529203221_220u
pins: 1, 2

## 74437529203330
designator L?, comment 33uH  (value not drawn)
WE-HCF SMT High Current Inductor, SMT, size 2920, 33uH, 20.05A, 7.59mohm; Manufacturer Part Number: 74437529203330; Manufacturer: Wurth Elektronik; Case/Size Code: 2920; Saturation Current @ 10%: 6A; Saturation Current @ 30%: 15.4A; Self Resonant Frequency: 7.1MHz; Wire Type: Round; Category: Power Inductors; Match Code: WE-HCF; ComponentLink1Description: Website Link; ComponentLink1URL: https://www.we-online.com; ComponentLink2Description: Datasheet Link; ComponentLink2URL: https://www.we-online.com/components/products/datasheet/74437529203330; Mount: Surface Mount; Operating Temperature Min: -40degC; Operating Temperature Max: 125degC; Packaging: Tray; Length: 28mm; Width: 25mm; Height: 20.5mm; DC Resistance Max: 7.59mohm; Inductance: 33uH; Performance Rated Current: 20.05A
footprint WE-HCF_2920
simulation model 2920_74437529203330_33u
pins: 1, 2

## 74437529203331
designator L?, comment 330uH  (value not drawn)
WE-HCF SMT High Current Inductor, SMT, size 2920, 330uH, 5.75A, 77.5mohm; Manufacturer Part Number: 74437529203331; Manufacturer: Wurth Elektronik; Case/Size Code: 2920; Saturation Current @ 10%: 4A; Saturation Current @ 30%: 4.3A; Self Resonant Frequency: 2.4MHz; Wire Type: Round; Category: Power Inductors; Match Code: WE-HCF; ComponentLink1Description: Website Link; ComponentLink1URL: https://www.we-online.com; ComponentLink2Description: Datasheet Link; ComponentLink2URL: https://www.we-online.com/components/products/datasheet/74437529203331; Mount: Surface Mount; Operating Temperature Min: -40degC; Operating Temperature Max: 125degC; Packaging: Tray; Length: 28mm; Width: 25mm; Height: 20.5mm; DC Resistance Max: 77.5mohm; Inductance: 330uH; Performance Rated Current: 5.75A
footprint WE-HCF_2920
simulation model 2920_74437529203331_330u
pins: 1, 2

## 74437529203470
designator L?, comment 47uH  (value not drawn)
WE-HCF SMT High Current Inductor, SMT, size 2920, 47uH, 17.5A, 9.68mohm; Manufacturer Part Number: 74437529203470; Manufacturer: Wurth Elektronik; Case/Size Code: 2920; Saturation Current @ 10%: 6.5A; Saturation Current @ 30%: 13A; Self Resonant Frequency: 6.7MHz; Wire Type: Round; Category: Power Inductors; Match Code: WE-HCF; ComponentLink1Description: Website Link; ComponentLink1URL: https://www.we-online.com; ComponentLink2Description: Datasheet Link; ComponentLink2URL: https://www.we-online.com/components/products/datasheet/74437529203470; Mount: Surface Mount; Operating Temperature Min: -40degC; Operating Temperature Max: 125degC; Packaging: Tray; Length: 28mm; Width: 25mm; Height: 20.5mm; DC Resistance Max: 9.68mohm; Inductance: 47uH; Performance Rated Current: 17.5A
footprint WE-HCF_2920
simulation model 2920_74437529203470_47u
pins: 1, 2

## 74437529203471
designator L?, comment 470uH  (value not drawn)
WE-HCF SMT High Current Inductor, SMT, size 2920, 470uH, 5.2A, 91.8mohm; Manufacturer Part Number: 74437529203471; Manufacturer: Wurth Elektronik; Case/Size Code: 2920; Saturation Current @ 10%: 3.2A; Saturation Current @ 30%: 3.7A; Self Resonant Frequency: 1.7MHz; Wire Type: Round; Category: Power Inductors; Match Code: WE-HCF; ComponentLink1Description: Website Link; ComponentLink1URL: https://www.we-online.com; ComponentLink2Description: Datasheet Link; ComponentLink2URL: https://www.we-online.com/components/products/datasheet/74437529203471; Mount: Surface Mount; Operating Temperature Min: -40degC; Operating Temperature Max: 125degC; Packaging: Tray; Length: 28mm; Width: 25mm; Height: 20.5mm; DC Resistance Max: 91.8mohm; Inductance: 470uH; Performance Rated Current: 5.2A
footprint WE-HCF_2920
simulation model 2920_74437529203471_470u
pins: 1, 2

## 74437529203680
designator L?, comment 68uH  (value not drawn)
WE-HCF SMT High Current Inductor, SMT, size 2920, 68uH, 16A, 11.33mohm; Manufacturer Part Number: 74437529203680; Manufacturer: Wurth Elektronik; Case/Size Code: 2920; Saturation Current @ 10%: 7.2A; Saturation Current @ 30%: 10.6A; Self Resonant Frequency: 5.7MHz; Wire Type: Round; Category: Power Inductors; Match Code: WE-HCF; ComponentLink1Description: Website Link; ComponentLink1URL: https://www.we-online.com; ComponentLink2Description: Datasheet Link; ComponentLink2URL: https://www.we-online.com/components/products/datasheet/74437529203680; Mount: Surface Mount; Operating Temperature Min: -40degC; Operating Temperature Max: 125degC; Packaging: Tray; Length: 28mm; Width: 25mm; Height: 20.5mm; DC Resistance Max: 11.33mohm; Inductance: 68uH; Performance Rated Current: 16A
footprint WE-HCF_2920
simulation model 2920_74437529203680_68u
pins: 1, 2

## 74437529203681
designator L?, comment 680uH  (value not drawn)
WE-HCF SMT High Current Inductor, SMT, size 2920, 680uH, 4.3A, 130.13mohm; Manufacturer Part Number: 74437529203681; Manufacturer: Wurth Elektronik; Case/Size Code: 2920; Saturation Current @ 10%: 2.6A; Saturation Current @ 30%: 3A; Self Resonant Frequency: 1.1MHz; Wire Type: Round; Category: Power Inductors; Match Code: WE-HCF; ComponentLink1Description: Website Link; ComponentLink1URL: https://www.we-online.com; ComponentLink2Description: Datasheet Link; ComponentLink2URL: https://www.we-online.com/components/products/datasheet/74437529203681; Mount: Surface Mount; Operating Temperature Min: -40degC; Operating Temperature Max: 125degC; Packaging: Tray; Length: 28mm; Width: 25mm; Height: 20.5mm; DC Resistance Max: 130.13mohm; Inductance: 680uH; Performance Rated Current: 4.3A
footprint WE-HCF_2920
simulation model 2920_74437529203681_680u
pins: 1, 2

## 74437529203682
designator L?, comment 6800uH  (value not drawn)
WE-HCF SMT High Current Inductor, SMT, size 2920, 6800uH, 1.5A, 710mohm; Manufacturer Part Number: 74437529203682; Manufacturer: Wurth Elektronik; Case/Size Code: 2920; Saturation Current @ 10%: 1.1A; Saturation Current @ 30%: 1.2A; Self Resonant Frequency: 0.345MHz; Wire Type: Round; Category: Power Inductors; Match Code: WE-HCF; ComponentLink1Description: Website Link; ComponentLink1URL: https://www.we-online.com; ComponentLink2Description: Datasheet Link; ComponentLink2URL: https://www.we-online.com/components/products/datasheet/74437529203682; Mount: Surface Mount; Operating Temperature Min: -40degC; Operating Temperature Max: 125degC; Packaging: Tray; Length: 28mm; Width: 25mm; Height: 20.5mm; DC Resistance Max: 710mohm; Inductance: 6800uH; Performance Rated Current: 1.5A
footprint WE-HCF_2920
pins: 1, 2